# Altium footprint library PcbLib1.PcbLib: 5 footprints
Each footprint in its own frame and in the unit in brackets; x right, y up, seen from the top. Pads: shape width x height; smd on the part's side, far side on the other; paste and mask are expansions set on the pad; w line width, h text height; cw(c..) or ccw(c..) is an arc to the next point about the centre after c.
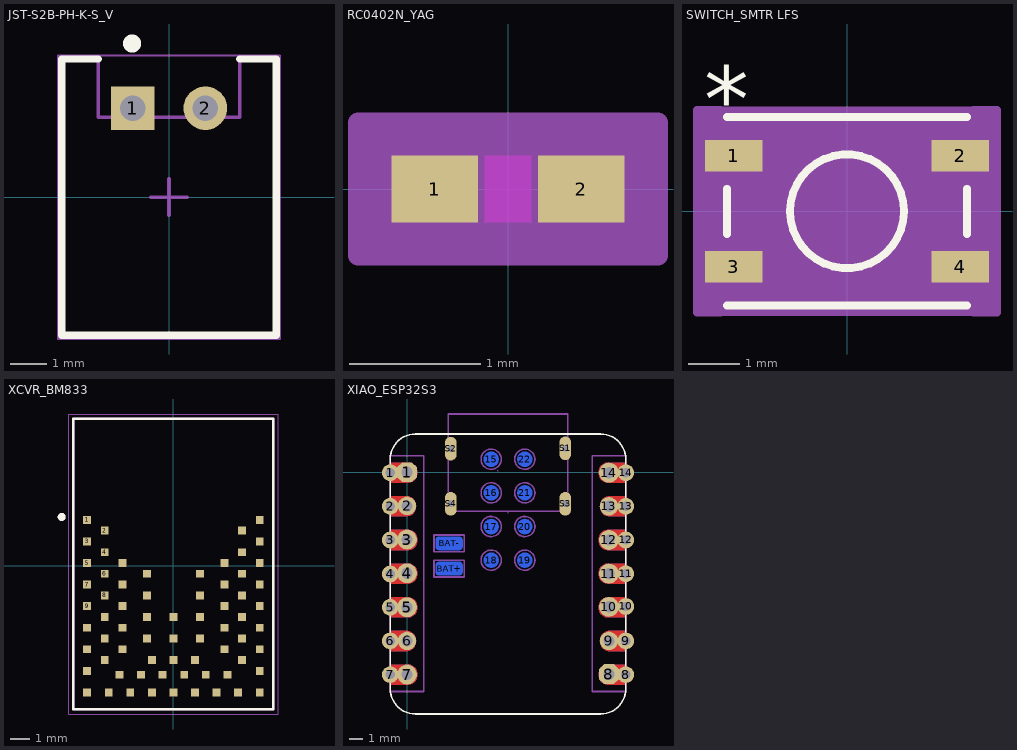
[diagram p0: the footprints below, top view; thin cyan lines are the x and y axes]

## JST-S2B-PH-K-S_V [mm] "THD, 2-Leads, Body 7.6x5.9mm, Pitch 2mm"
height 4.8
pads (2):
  rect 1.2x1.2 hole 0.7: 1(-1,2.45)
  round 1.2 hole 0.7: 2(1,2.45)
Top Overlay:
  circle w0.25: c-1.016,4.228 r0.125
  lines w0.2: -1.95,3.8 -2.95,3.8 -2.95,-3.8 2.95,-3.8 2.95,3.8 1.95,3.8
Mechanical 13:
  lines w0.1: -2.95,-3.8 -2.95,3.8 -1.95,3.8 -1.95,3.8 -1.95,2.2 1.95,2.2 1.95,3.8 2.95,3.8 2.95,-3.8 -2.95,-3.8
Mechanical 15:
  lines w0.05: -3.05,-3.9 3.05,-3.9 3.05,3.9 -3.05,3.9 -3.05,-3.9
  lines w0.1: -0.5,0 0.5,0 ; 0,-0.5 0,0.5
3D body "S2B-PH-K-S.STEP": height 4.8, standoff -3.4, extent -2.95,-3.8 2.95,3.8

## RC0402N_YAG [mil]
pads (2):
  rect 26x20 smd paste+0 mask+0: 1(-22,0) 2(22,0)
Top Layer keep-out:
  region: -7,-8 -7,8 7,8 7,-8
Keep-Out Layer:
  region: -7,-10 -7,10 7,10 7,-10
Mechanical 13:
  lines w1: -21,-10 -21,10 ; -21,-10 21,-10 ; -21,-10 -9,-10 -9,10 -21,10 ; -21,-10 -21,10 ; -21,10 21,10 ; 21,-10 21,10 ; 21,-10 21,10 ; 21,-10 9,-10 9,10 21,10
Mechanical 15:
  region: 45,-20 -45,-20 -45,20 45,20
  lines w6: -45,-20 45,-20 45,20 -45,20 -45,-20
3D body "RC0402N_YAG.step": height 27.99, standoff 0, extent -20.98,-10 20.98,10

## SWITCH_SMTR LFS [mil]
pads (4):
  rect 44x24 smd paste+0 mask+0: 1(-86.5,42.32) 2(86.5,42.32) 3(-86.5,-42.32) 4(86.5,-42.32)
Top Overlay:
  circle w6: c0,0 r43.5
  lines w6: -91.5,-72 91.5,-72 ; -91.5,-17.22 -91.5,17.22 ; -91.5,72 91.5,72 ; 91.5,-17.22 91.5,17.22
  text "*" at -109,61.32 h50
Mechanical 13:
  circle w0: c0,0 r43.5
  lines w1: -94.5,-53.32 -86.5,-53.32 -86.5,-31.32 -94.5,-31.32 -94.5,-53.32 ; -94.5,31.32 -86.5,31.32 -86.5,53.32 -94.5,53.32 -94.5,31.32 ; -86.5,-67 -86.5,67 86.5,67 86.5,-67 -86.5,-67 ; 86.5,-53.32 94.5,-53.32 94.5,-31.32 86.5,-31.32 86.5,-53.32 ; 86.5,31.32 94.5,31.32 94.5,53.32 86.5,53.32 86.5,31.32
  text "*" at -84,1.32 h50
Mechanical 15:
  region: 96.5,-77 -96.5,-77 -96.5,-77.32 -114.5,-77.32 -114.5,77.32 -96.5,77.32 -96.5,77 96.5,77 96.5,77.32 114.5,77.32 114.5,-77.32 96.5,-77.32
  lines w6: -114.5,-77.32 -114.5,77.32 -96.5,77.32 -96.5,77 96.5,77 96.5,77.32 114.5,77.32 114.5,-77.32 96.5,-77.32 96.5,-77 -96.5,-77 -96.5,-77.32 -114.5,-77.32
3D body "PTS815SJK250SMTRLFS.stp": height 98.43, standoff 0, extent -88.57,-62.99 88.59,63

## XCVR_BM833 [mm]
height 1.9
pads (68):
  rect 0.4x0.4 smd: 1(-4.4,2.35) 2(-3.5,1.8) 3(-4.4,1.25) 4(-3.5,0.7) 5(-4.4,0.15) 6(-3.5,-0.4) 7(-4.4,-0.95) 8(-3.5,-1.5) 9(-4.4,-2.05) 10(-3.5,-2.6) 11(-4.4,-3.15) 12(-3.5,-3.7) 13(-4.4,-4.25) 14(-3.5,-4.8) 15(-4.4,-5.35) 16(-4.4,-6.45) 17(-3.3,-6.45) 18(-2.75,-5.55) 19(-2.2,-6.45) 20(-1.65,-5.55) 21(-1.1,-6.45) 22(-0.55,-5.55) 23(0,-6.45) 24(0.55,-5.55) 25(1.1,-6.45) 26(1.65,-5.55) 27(2.2,-6.45) 28(2.75,-5.55) 29(3.3,-6.45) 30(4.4,-6.45) 31(4.4,-5.35) 32(3.5,-4.8) 33(4.4,-4.25) 34(3.5,-3.7) 35(4.4,-3.15) 36(3.5,-2.6) 37(4.4,-2.05) 38(3.5,-1.5) 39(4.4,-0.95) 40(3.5,-0.4) 41(4.4,0.15) 42(3.5,0.7) 43(4.4,1.25) 44(3.5,1.8) 45(4.4,2.35) 46(1.35,-0.4) 47(-1.35,-0.4) 48(-2.6,0.15) 49(-2.6,-0.95) 50(-1.35,-1.5) 51(-2.6,-2.05) 52(-1.35,-2.6) 53(-2.6,-3.15) 54(-1.35,-3.7) 55(-2.6,-4.25) 56(-1.1,-4.8) 57(0,-4.8) 58(1.1,-4.8) 59(2.6,-4.25) 60(1.35,-3.7) 61(2.6,-3.15) 62(1.35,-2.6) 63(2.6,-2.05) 64(1.35,-1.5) 65(2.6,-0.95) 66(2.6,0.15) 67(0,-3.7) 68(0,-2.6)
Top Overlay:
  circle w0.2: c-5.7,2.5 r0.1
  lines w0.127: -5.1,-7.3 5.1,-7.3 5.1,7.5 -5.1,7.5 -5.1,-7.3
Mechanical 13:
  circle w0.2: c-5.7,2.5 r0.1
  lines w0.127: -5.1,-7.3 -5.1,7.5 5.1,7.5 5.1,-7.3 -5.1,-7.3
Mechanical 15:
  lines w0.05: -5.35,-7.55 -5.35,7.75 5.35,7.75 5.35,-7.55 -5.35,-7.55
3D body "bc833m.stp": height 2, standoff 0, extent -4.953,-7.1 4.947,7.1

## XIAO_ESP32S3 [mil]
pads (42):
  round 50 hole 27.56: 1(-50,-1.25) 2(-50,-101.25) 3(-50,-201.25) 4(-50,-302.3) 5(-50,-401.25) 6(-50,-501.25) 7(-50,-601.25) 8(650,-601.25) 9(650,-501.25) 10(650,-398.79) 11(650,-301.25) 12(650,-201.25) 13(650,-101.25) 14(650,-1.25)
  oct 59.06x59.06 / inner round 54.56 / far side oct 59.06x59.06 hole 33.46: 1(0,0) 8(600,-600)
  round 55.12 hole 33.46: 2(0,-100) 6(0,-501.25) 9(600,-501.25) 13(600,-101.25)
  round 59.06 hole 33.46: 3(0,-200) 4(0,-300) 5(0,-401.25) 7(0,-601.25) 10(600,-400) 11(600,-301.25) 12(600,-201.25) 14(600,-1.25)
  rrect100% 45x45 smd far side paste+0: 15(250,38.75) 16(250,-61.25) 17(250,-161.25) 18(250,-261.25) 19(350,-261.25) 20(350,-161.25) 21(350,-61.25) 22(350,38.75)
  rrect50% 80x40 smd far side: BAT+(125,-286.25) BAT-(125,-211.25)
  oval 35x70 hole 20: S1(470,71.25) S2(130,70) S3(470,-93.75) S4(130,-93.75)
Top Layer:
  region: -50,-571.25 2.5,-571.25 5.21,-571.25 10.52,-572.31 15.53,-574.38 20.03,-577.39 23.86,-581.22 26.87,-585.72 28.94,-590.73 30,-596.04 30,-598.75 30,-603.75 30,-606.46 28.94,-611.77 26.87,-616.78 23.86,-621.28 20.03,-625.11 15.53,-628.12 10.52,-630.19 5.21,-631.25 2.5,-631.25 -50,-631.25
  region: -50,-471.25 0,-471.25 2.61,-471.35 7.7,-472.56 12.45,-474.73 16.68,-477.8 20.24,-481.63 22.98,-486.08 24.8,-490.98 25.63,-496.14 25.53,-498.75 25.53,-503.75 25.63,-506.36 24.8,-511.52 22.98,-516.42 20.24,-520.87 16.68,-524.7 12.45,-527.77 7.7,-529.94 2.61,-531.15 0,-531.25 -50,-531.25
  region: -50,-371.25 2.5,-371.25 5.21,-371.25 10.52,-372.31 15.53,-374.38 20.03,-377.39 23.86,-381.22 26.87,-385.72 28.94,-390.73 30,-396.04 30,-398.75 30,-403.75 30,-406.46 28.94,-411.77 26.87,-416.78 23.86,-421.28 20.03,-425.11 15.53,-428.12 10.52,-430.19 5.21,-431.25 2.5,-431.25 -50,-431.25
  region: -50,-271.25 2.5,-271.25 5.21,-271.25 10.52,-272.31 15.53,-274.38 20.03,-277.39 23.86,-281.22 26.87,-285.72 28.94,-290.73 30,-296.04 30,-298.75 30,-303.75 30,-306.46 28.94,-311.77 26.87,-316.78 23.86,-321.28 20.03,-325.11 15.53,-328.12 10.52,-330.19 5.21,-331.25 2.5,-331.25 -50,-331.25
  region: -50,-171.25 2.5,-171.25 5.21,-171.25 10.52,-172.31 15.53,-174.38 20.03,-177.39 23.86,-181.22 26.87,-185.72 28.94,-190.73 30,-196.04 30,-198.75 30,-203.75 30,-206.46 28.94,-211.77 26.87,-216.78 23.86,-221.28 20.03,-225.11 15.53,-228.12 10.52,-230.19 5.21,-231.25 2.5,-231.25 -50,-231.25
  region: -50,-71.25 0,-71.25 2.61,-71.35 7.7,-72.56 12.45,-74.73 16.68,-77.8 20.24,-81.63 22.98,-86.08 24.8,-90.98 25.63,-96.14 25.53,-98.75 25.53,-103.75 25.63,-106.36 24.8,-111.52 22.98,-116.42 20.24,-120.87 16.68,-124.7 12.45,-127.77 7.7,-129.94 2.61,-131.15 0,-131.25 -50,-131.25
  region: -50,28.75 2.5,28.75 5.21,28.75 10.52,27.69 15.53,25.62 20.03,22.61 23.86,18.78 26.87,14.28 28.94,9.27 30,3.96 30,1.25 30,-3.75 30,-6.46 28.94,-11.77 26.87,-16.78 23.86,-21.28 20.03,-25.11 15.53,-28.12 10.52,-30.19 5.21,-31.25 2.5,-31.25 -50,-31.25
  region: 650,-31.25 597.5,-31.25 594.79,-31.25 589.48,-30.19 584.47,-28.12 579.97,-25.11 576.14,-21.28 573.13,-16.78 571.06,-11.77 570,-6.46 570,-3.75 570,1.25 570,3.96 571.06,9.27 573.13,14.28 576.14,18.78 579.97,22.61 584.47,25.62 589.48,27.69 594.79,28.75 597.5,28.75 650,28.75
  region: 650,-131.25 600,-131.25 597.39,-131.15 592.3,-129.94 587.55,-127.77 583.32,-124.7 579.76,-120.87 577.02,-116.42 575.2,-111.52 574.37,-106.36 574.47,-103.75 574.47,-98.75 574.37,-96.14 575.2,-90.98 577.02,-86.08 579.76,-81.63 583.32,-77.8 587.55,-74.73 592.3,-72.56 597.39,-71.35 600,-71.25 650,-71.25
  region: 650,-231.25 597.5,-231.25 594.79,-231.25 589.48,-230.19 584.47,-228.12 579.97,-225.11 576.14,-221.28 573.13,-216.78 571.06,-211.77 570,-206.46 570,-203.75 570,-198.75 570,-196.04 571.06,-190.73 573.13,-185.72 576.14,-181.22 579.97,-177.39 584.47,-174.38 589.48,-172.31 594.79,-171.25 597.5,-171.25 650,-171.25
  region: 650,-331.25 597.5,-331.25 594.79,-331.25 589.48,-330.19 584.47,-328.12 579.97,-325.11 576.14,-321.28 573.13,-316.78 571.06,-311.77 570,-306.46 570,-303.75 570,-298.75 570,-296.04 571.06,-290.73 573.13,-285.72 576.14,-281.22 579.97,-277.39 584.47,-274.38 589.48,-272.31 594.79,-271.25 597.5,-271.25 650,-271.25
  region: 650,-431.25 597.5,-431.25 594.79,-431.25 589.48,-430.19 584.47,-428.12 579.97,-425.11 576.14,-421.28 573.13,-416.78 571.06,-411.77 570,-406.46 570,-403.75 570,-398.75 570,-396.04 571.06,-390.73 573.13,-385.72 576.14,-381.22 579.97,-377.39 584.47,-374.38 589.48,-372.31 594.79,-371.25 597.5,-371.25 650,-371.25
  region: 650,-531.25 600,-531.25 597.39,-531.15 592.3,-529.94 587.55,-527.77 583.32,-524.7 579.76,-520.87 577.02,-516.42 575.2,-511.52 574.37,-506.36 574.47,-503.75 574.47,-498.75 574.37,-496.14 575.2,-490.98 577.02,-486.08 579.76,-481.63 583.32,-477.8 587.55,-474.73 592.3,-472.56 597.39,-471.35 600,-471.25 650,-471.25
  region: 650,-631.25 597.5,-631.25 594.79,-631.25 589.48,-630.19 584.47,-628.12 579.97,-625.11 576.14,-621.28 573.13,-616.78 571.06,-611.77 570,-606.46 570,-603.75 570,-598.75 570,-596.04 571.06,-590.73 573.13,-585.72 576.14,-581.22 579.97,-577.39 584.47,-574.38 589.48,-572.31 594.79,-571.25 597.5,-571.25 650,-571.25
Bottom Layer:
  region: -50,-631.25 2.5,-631.25 5.21,-631.25 10.52,-630.19 15.53,-628.12 20.03,-625.11 23.86,-621.28 26.87,-616.78 28.94,-611.77 30,-606.46 30,-603.75 30,-598.75 30,-596.04 28.94,-590.73 26.87,-585.72 23.86,-581.22 20.03,-577.39 15.53,-574.38 10.52,-572.31 5.21,-571.25 2.5,-571.25 -50,-571.25
  region: -50,-531.25 0,-531.25 2.61,-531.15 7.7,-529.94 12.45,-527.77 16.68,-524.7 20.24,-520.87 22.98,-516.42 24.8,-511.52 25.63,-506.36 25.53,-503.75 25.53,-498.75 25.63,-496.14 24.8,-490.98 22.98,-486.08 20.24,-481.63 16.68,-477.8 12.45,-474.73 7.7,-472.56 2.61,-471.35 0,-471.25 -50,-471.25
  region: -50,-431.25 2.5,-431.25 5.21,-431.25 10.52,-430.19 15.53,-428.12 20.03,-425.11 23.86,-421.28 26.87,-416.78 28.94,-411.77 30,-406.46 30,-403.75 30,-398.75 30,-396.04 28.94,-390.73 26.87,-385.72 23.86,-381.22 20.03,-377.39 15.53,-374.38 10.52,-372.31 5.21,-371.25 2.5,-371.25 -50,-371.25
  region: -50,-331.25 2.5,-331.25 5.21,-331.25 10.52,-330.19 15.53,-328.12 20.03,-325.11 23.86,-321.28 26.87,-316.78 28.94,-311.77 30,-306.46 30,-303.75 30,-298.75 30,-296.04 28.94,-290.73 26.87,-285.72 23.86,-281.22 20.03,-277.39 15.53,-274.38 10.52,-272.31 5.21,-271.25 2.5,-271.25 -50,-271.25
  region: -50,-231.25 2.5,-231.25 5.21,-231.25 10.52,-230.19 15.53,-228.12 20.03,-225.11 23.86,-221.28 26.87,-216.78 28.94,-211.77 30,-206.46 30,-203.75 30,-198.75 30,-196.04 28.94,-190.73 26.87,-185.72 23.86,-181.22 20.03,-177.39 15.53,-174.38 10.52,-172.31 5.21,-171.25 2.5,-171.25 -50,-171.25
  region: -50,-131.25 0,-131.25 2.61,-131.15 7.7,-129.94 12.45,-127.77 16.68,-124.7 20.24,-120.87 22.98,-116.42 24.8,-111.52 25.63,-106.36 25.53,-103.75 25.53,-98.75 25.63,-96.14 24.8,-90.98 22.98,-86.08 20.24,-81.63 16.68,-77.8 12.45,-74.73 7.7,-72.56 2.61,-71.35 0,-71.25 -50,-71.25
  region: -50,-31.25 2.5,-31.25 5.21,-31.25 10.52,-30.19 15.53,-28.12 20.03,-25.11 23.86,-21.28 26.87,-16.78 28.94,-11.77 30,-6.46 30,-3.75 30,1.25 30,3.96 28.94,9.27 26.87,14.28 23.86,18.78 20.03,22.61 15.53,25.62 10.52,27.69 5.21,28.75 2.5,28.75 -50,28.75
  region: 650,28.75 597.5,28.75 594.79,28.75 589.48,27.69 584.47,25.62 579.97,22.61 576.14,18.78 573.13,14.28 571.06,9.27 570,3.96 570,1.25 570,-3.75 570,-6.46 571.06,-11.77 573.13,-16.78 576.14,-21.28 579.97,-25.11 584.47,-28.12 589.48,-30.19 594.79,-31.25 597.5,-31.25 650,-31.25
  region: 650,-71.25 600,-71.25 597.39,-71.35 592.3,-72.56 587.55,-74.73 583.32,-77.8 579.76,-81.63 577.02,-86.08 575.2,-90.98 574.37,-96.14 574.47,-98.75 574.47,-103.75 574.37,-106.36 575.2,-111.52 577.02,-116.42 579.76,-120.87 583.32,-124.7 587.55,-127.77 592.3,-129.94 597.39,-131.15 600,-131.25 650,-131.25
  region: 650,-171.25 597.5,-171.25 594.79,-171.25 589.48,-172.31 584.47,-174.38 579.97,-177.39 576.14,-181.22 573.13,-185.72 571.06,-190.73 570,-196.04 570,-198.75 570,-203.75 570,-206.46 571.06,-211.77 573.13,-216.78 576.14,-221.28 579.97,-225.11 584.47,-228.12 589.48,-230.19 594.79,-231.25 597.5,-231.25 650,-231.25
  region: 650,-271.25 597.5,-271.25 594.79,-271.25 589.48,-272.31 584.47,-274.38 579.97,-277.39 576.14,-281.22 573.13,-285.72 571.06,-290.73 570,-296.04 570,-298.75 570,-303.75 570,-306.46 571.06,-311.77 573.13,-316.78 576.14,-321.28 579.97,-325.11 584.47,-328.12 589.48,-330.19 594.79,-331.25 597.5,-331.25 650,-331.25
  region: 650,-371.25 597.5,-371.25 594.79,-371.25 589.48,-372.31 584.47,-374.38 579.97,-377.39 576.14,-381.22 573.13,-385.72 571.06,-390.73 570,-396.04 570,-398.75 570,-403.75 570,-406.46 571.06,-411.77 573.13,-416.78 576.14,-421.28 579.97,-425.11 584.47,-428.12 589.48,-430.19 594.79,-431.25 597.5,-431.25 650,-431.25
  region: 650,-471.25 600,-471.25 597.39,-471.35 592.3,-472.56 587.55,-474.73 583.32,-477.8 579.76,-481.63 577.02,-486.08 575.2,-490.98 574.37,-496.14 574.47,-498.75 574.47,-503.75 574.37,-506.36 575.2,-511.52 577.02,-516.42 579.76,-520.87 583.32,-524.7 587.55,-527.77 592.3,-529.94 597.39,-531.15 600,-531.25 650,-531.25
  region: 650,-571.25 597.5,-571.25 594.79,-571.25 589.48,-572.31 584.47,-574.38 579.97,-577.39 576.14,-581.22 573.13,-585.72 571.06,-590.73 570,-596.04 570,-598.75 570,-603.75 570,-606.46 571.06,-611.77 573.13,-616.78 576.14,-621.28 579.97,-625.11 584.47,-628.12 589.48,-630.19 594.79,-631.25 597.5,-631.25 650,-631.25
Top Overlay:
  lines w5: -50,-643.34 ccw(c25,-643.34) 25,-718.34 575,-718.34 ccw(c575,-643.34) 650,-643.34 650,38.75 ccw(c575,38.75) 575,113.75 25,113.75 ccw(c25,38.75) -50,38.75 -50,-643.34
Top Solder:
  drawing of 14 lines, arcs and shapes, not listed
Bottom Solder:
  drawing of 15 lines, arcs and shapes, not listed
Route Tool Path:
  region: 480,-78.75 480,-108.75 480,-110.74 478.48,-114.41 475.66,-117.23 471.99,-118.75 470,-118.75 468.01,-118.75 464.34,-117.23 461.52,-114.41 460,-110.74 460,-108.75 460,-78.75 460,-76.76 461.52,-73.09 464.34,-70.27 468.01,-68.75 470,-68.75 471.99,-68.75 475.66,-70.27 478.48,-73.09 480,-76.76
  region: 140,-78.75 140,-108.75 140,-110.74 138.48,-114.41 135.66,-117.23 131.99,-118.75 130,-118.75 128.01,-118.75 124.34,-117.23 121.52,-114.41 120,-110.74 120,-108.75 120,-78.75 120,-76.76 121.52,-73.09 124.34,-70.27 128.01,-68.75 130,-68.75 131.99,-68.75 135.66,-70.27 138.48,-73.09 140,-76.76
  region: 480,88.75 480,53.75 480,51.76 478.48,48.09 475.66,45.27 471.99,43.75 470,43.75 468.01,43.75 464.34,45.27 461.52,48.09 460,51.76 460,53.75 460,88.75 460,90.74 461.52,94.41 464.34,97.23 468.01,98.75 470,98.75 471.99,98.75 475.66,97.23 478.48,94.41 480,90.74
Bottom 3D Body:
  circle w5: c350,-261.25 r30
  circle w5: c250,-261.25 r30
  circle w5: c350,-161.25 r30
  circle w5: c250,-161.25 r30
  circle w5: c250,-61.25 r30
  circle w5: c350,38.75 r30
  circle w5: c250,38.75 r30
  circle w5: c350,-61.25 r30
  lines w5: 80,-311.25 170,-311.25 170,-261.25 80,-261.25 80,-311.25 ; 80,-236.25 170,-236.25 170,-186.25 80,-186.25 80,-236.25
Mechanical 7:
  lines w5: 122.83,-116.25 122.83,173.12 477.17,173.12 477.17,-116.25 122.83,-116.25
Mechanical 8:
  lines w5: -50,-651.25 -50,48.75 50,48.75 50,-651.25 -50,-651.25 ; 550,-651.25 550,48.75 650,48.75 650,-651.25 550,-651.25
Mechanical 20:
  lines w0.04: 269.02,4.81 270.98,4.81 ; 270,3.83 270,5.8 ; 299.02,-120.19 300.98,-120.19 ; 300,-121.17 300,-119.2
3D body "XIAO-ESP32S3 v2.step": height 165.75, standoff -9.84, extent -50,-715.12 650,170